# Altium integrated library NP Altium Library.IntLib: 12 symbols
Pins are listed as number, name and electrical type; pins without a type are passive.

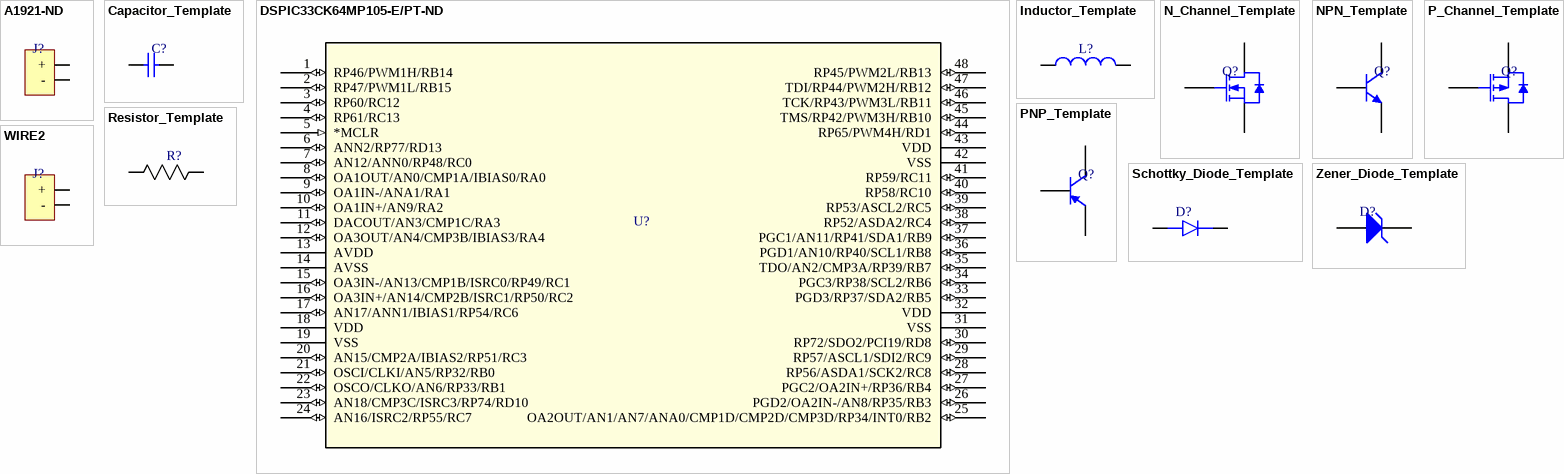
[diagram p0: symbols A1921-ND to Zener_Diode_Template]

## A1921-ND
designator J?  (value not drawn)
CONN HEADER VERT 2POS 2.54MM; Supplier 1: Digikey; Supplier Part Number 1: A1921-ND
footprint 100MIL PADs
pins: 1  +, 2 -

## Capacitor_Template
designator C?  (value not drawn)
pins: 1, 2

## DSPIC33CK64MP105-E/PT-ND
designator U?  (value not drawn)
IC MCU 16BIT 64KB FLASH 48TQFP; Supplier 1: Digikey; Supplier Part Number 1: DSPIC33CK64MP105-E/PT-ND
footprint 48-TQFP
pins: 1 RP46/PWM1H/RB14 (io), 2 RP47/PWM1L/RB15 (io), 3 RP60/RC12 (io), 4 RP61/RC13 (io), 5 *MCLR (in), 6 ANN2/RP77/RD13 (io), 7 AN12/ANN0/RP48/RC0 (io), 8 OA1OUT/AN0/CMP1A/IBIAS0/RA0 (io), 9 OA1IN-/ANA1/RA1 (io), 10 OA1IN+/AN9/RA2 (io), 11 DACOUT/AN3/CMP1C/RA3 (io), 12 OA3OUT/AN4/CMP3B/IBIAS3/RA4 (io), 13 AVDD (power), 14 AVSS (power), 15 OA3IN-/AN13/CMP1B/ISRC0/RP49/RC1 (io), 16 OA3IN+/AN14/CMP2B/ISRC1/RP50/RC2 (io), 17 AN17/ANN1/IBIAS1/RP54/RC6 (io), 18 VDD (power), 19 VSS (power), 20 AN15/CMP2A/IBIAS2/RP51/RC3 (io), 21 OSCI/CLKI/AN5/RP32/RB0 (io), 22 OSCO/CLKO/AN6/RP33/RB1 (io), 23 AN18/CMP3C/ISRC3/RP74/RD10 (io), 24 AN16/ISRC2/RP55/RC7 (io), 25 OA2OUT/AN1/AN7/ANA0/CMP1D/CMP2D/CMP3D/RP34/INT0/RB2 (io), 26 PGD2/OA2IN-/AN8/RP35/RB3 (io), 27 PGC2/OA2IN+/RP36/RB4 (io), 28 RP56/ASDA1/SCK2/RC8 (io), 29 RP57/ASCL1/SDI2/RC9 (io), 30 RP72/SDO2/PCI19/RD8 (io), 31 VSS (power), 32 VDD (power), 33 PGD3/RP37/SDA2/RB5 (io), 34 PGC3/RP38/SCL2/RB6 (io), 35 TDO/AN2/CMP3A/RP39/RB7 (io), 36 PGD1/AN10/RP40/SCL1/RB8 (io), 37 PGC1/AN11/RP41/SDA1/RB9 (io), 38 RP52/ASDA2/RC4 (io), 39 RP53/ASCL2/RC5 (io), 40 RP58/RC10 (io), 41 RP59/RC11 (io), 42 VSS (power), 43 VDD (power), 44 RP65/PWM4H/RD1 (io), 45 TMS/RP42/PWM3H/RB10 (io), 46 TCK/RP43/PWM3L/RB11 (io), 47 TDI/RP44/PWM2H/RB12 (io), 48 RP45/PWM2L/RB13 (io)

## Inductor_Template
designator L?  (value not drawn)
pins: 1, 2

## N_Channel_Template
designator Q?  (value not drawn)
pins: 1 G, 2 D, 3 S

## NPN_Template
designator Q?  (value not drawn)
pins: 1 E, 2 B, 3 C

## P_Channel_Template
designator Q?  (value not drawn)
pins: 1 S, 2 G, 3 D

## PNP_Template
designator Q?  (value not drawn)
pins: 1 E, 2 B, 3 C

## Resistor_Template
designator R?  (value not drawn)
pins: 1, 2

## Schottky_Diode_Template
designator D?  (value not drawn)
pins: 1 K, 2 A

## WIRE2
designator J?
2 pin strained reflief wire connector
footprint WIRE2 (2 pin strain Relief)
pins: 1  +, 2 -

## Zener_Diode_Template
designator D?  (value not drawn)
pins: 1 A, 2 K